# Altium schematic symbol library WP-RAFE.SchLib: 5 symbols
Pins are listed as number, name and electrical type; pins without a type are passive.

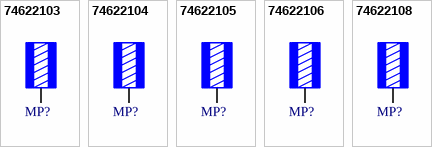
[diagram p0: symbols 74622103 to 74622108]

## 74622103
designator MP?, comment M3  (value not drawn)
WP-RAFE REDCUBE PRESS-FIT right angled, edge position, L7 x W7 x H14mm, M3, 130A; Manufacturer Part Number: 74622103; Manufacturer: Wurth Elektronik; Surface: Tin; Thread Length: 4mm; Category: REDCUBE PRESS-FIT; Match Code: WP-RAFE; ComponentLink1Description: Website Link; ComponentLink1URL: https://www.we-online.com/redexpert/article/74622103?ad; ComponentLink2Description: Datasheet Link; ComponentLink2URL: https://www.we-online.com/redexpert/spec/74622103?ad; Mount: Press Fit; Operating Temperature Max: 150°C; Operating Temperature Min: -55°C; Packaging: Bulk; Length: 7mm; Width: 7mm; Height: 14mm; Material: Brass; Number of Pins: 6; Rated Current: 130A; Thread Size: M3
footprint 74622103_chemical surface
footprint 74622103_HAL
pins: 1

## 74622104
designator MP?, comment M4  (value not drawn)
WP-RAFE REDCUBE PRESS-FIT right angled, edge position, L9 x W9 x H14mm, M4, 180A; Manufacturer Part Number: 74622104; Manufacturer: Wurth Elektronik; Surface: Tin; Thread Length: 5mm; Category: REDCUBE PRESS-FIT; Match Code: WP-RAFE; ComponentLink1Description: Website Link; ComponentLink1URL: https://www.we-online.com/redexpert/article/74622104?ad; ComponentLink2Description: Datasheet Link; ComponentLink2URL: https://www.we-online.com/redexpert/spec/74622104?ad; Mount: Press Fit; Operating Temperature Max: 150°C; Operating Temperature Min: -55°C; Packaging: Bulk; Length: 9mm; Width: 9mm; Height: 14mm; Material: Brass; Number of Pins: 12; Rated Current: 180A; Thread Size: M4
footprint 74622104_chemical surface
footprint 74622104_HAL
pins: 1

## 74622105
designator MP?, comment M5  (value not drawn)
WP-RAFE REDCUBE PRESS-FIT right angled, edge position, L9 x W9 x H14mm, M5, 180A; Manufacturer Part Number: 74622105; Manufacturer: Wurth Elektronik; Surface: Tin; Thread Length: 5mm; Category: REDCUBE PRESS-FIT; Match Code: WP-RAFE; ComponentLink1Description: Website Link; ComponentLink1URL: https://www.we-online.com/redexpert/article/74622105?ad; ComponentLink2Description: Datasheet Link; ComponentLink2URL: https://www.we-online.com/redexpert/spec/74622105?ad; Mount: Press Fit; Operating Temperature Max: 150°C; Operating Temperature Min: -55°C; Packaging: Bulk; Length: 9mm; Width: 9mm; Height: 14mm; Material: Brass; Number of Pins: 12; Rated Current: 180A; Thread Size: M5
footprint 74622105_chemical surface
footprint 74622105_HAL
pins: 1

## 74622106
designator MP?, comment M6  (value not drawn)
WP-RAFE REDCUBE PRESS-FIT right angled, edge position, L13 x W13 x H20mm, M6, 250A; Manufacturer Part Number: 74622106; Manufacturer: Wurth Elektronik; Surface: Tin; Thread Length: 8mm; Category: REDCUBE PRESS-FIT; Match Code: WP-RAFE; ComponentLink1Description: Website Link; ComponentLink1URL: https://www.we-online.com/redexpert/article/74622106?ad; ComponentLink2Description: Datasheet Link; ComponentLink2URL: https://www.we-online.com/redexpert/spec/74622106?ad; Mount: Press Fit; Operating Temperature Max: 150°C; Operating Temperature Min: -55°C; Packaging: Bulk; Length: 13mm; Width: 13mm; Height: 20mm; Material: Brass; Number of Pins: 20; Rated Current: 250A; Thread Size: M6
footprint 74622106_chemical surface
footprint 74622106_HAL
pins: 1

## 74622108
designator MP?, comment M8  (value not drawn)
WP-RAFE REDCUBE PRESS-FIT right angled, edge position, L13 x W13 x H20mm, M8, 250A; Manufacturer Part Number: 74622108; Manufacturer: Wurth Elektronik; Surface: Tin; Thread Length: 8mm; Category: REDCUBE PRESS-FIT; Match Code: WP-RAFE; ComponentLink1Description: Website Link; ComponentLink1URL: https://www.we-online.com/redexpert/article/74622108?ad; ComponentLink2Description: Datasheet Link; ComponentLink2URL: https://www.we-online.com/redexpert/spec/74622108?ad; Mount: Press Fit; Operating Temperature Max: 150°C; Operating Temperature Min: -55°C; Packaging: Bulk; Length: 13mm; Width: 13mm; Height: 20mm; Material: Brass; Number of Pins: 20; Rated Current: 250A; Thread Size: M8
footprint 74622108_chemical surface
footprint 74622108_HAL
pins: 1